# Altium footprint library co2_meter_pcb_library.PcbLib: 17 footprints (part 2 of 2)
Each footprint in its own frame and in the unit in brackets; x right, y up, seen from the top. Pads: shape width x height; smd on the part's side, far side on the other; paste and mask are expansions set on the pad; w line width, h text height; cw(c..) or ccw(c..) is an arc to the next point about the centre after c.
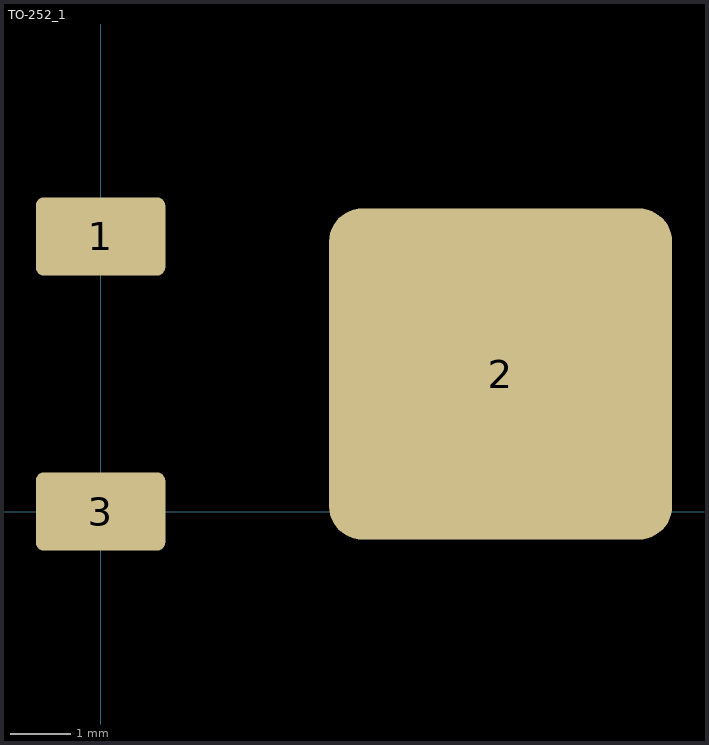
[diagram p1: the footprint, top view; thin cyan lines are the x and y axes]

## TO-252_1 [mm] "NDP Package  3-Pin TO-252"
height 2.413
pads (3):
  rrect20% 2.15x1.3 smd: 1(0,4.57) 3(0,0)
  rrect20% 5.7x5.5 smd: 2(6.645,2.285)
3D body "DPAK_TO-252AA.STEP": height 2.41, standoff 0.01, extent -0.891,-1.081 9.209,5.653